# EAGLE library part MAX4702 (library SPCoast)
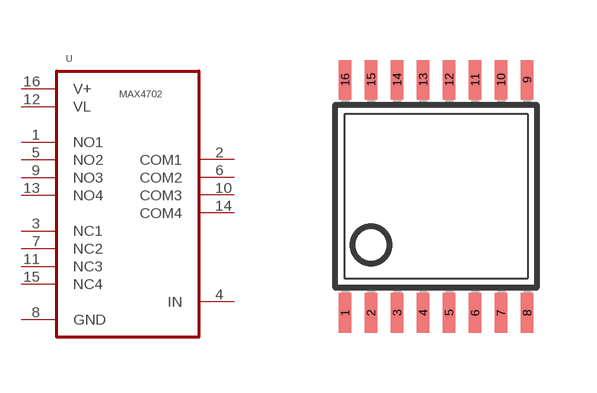
[diagram p86: symbol with the pads of MAX4702EUE+; footprint MAX4702EUE+]

Designator prefix U

## MAX4702EUE+  [MAX4702EUE+]
1  NO1
2  COM1
3  NC1
4  IN
5  NO2
6  COM2
7  NC2
8  GND
9  NO3
10  COM3
11  NC3
12  VL
13  NO4
14  COM4
15  NC4
16  V+

## Footprint MAX4702EUE+ (pad centres in mm)
smd 0.305 x 0.991: 1 -2.275,-2.918; 2 -1.625,-2.918; 3 -0.975,-2.918; 4 -0.325,-2.918; 5 0.325,-2.918; 6 0.975,-2.918; 7 1.625,-2.918; 8 2.275,-2.918; 9 2.275,2.918; 10 1.625,2.918; 11 0.975,2.918; 12 0.325,2.918; 13 -0.325,2.918; 14 -0.975,2.918; 15 -1.625,2.918; 16 -2.275,2.918